# Altium footprint library Bagryanets-PcbLib.PcbLib: 38 footprints (part 2 of 3)
Each footprint in its own frame and in the unit in brackets; x right, y up, seen from the top. Pads: shape width x height; smd on the part's side, far side on the other; paste and mask are expansions set on the pad; w line width, h text height; cw(c..) or ccw(c..) is an arc to the next point about the centre after c.
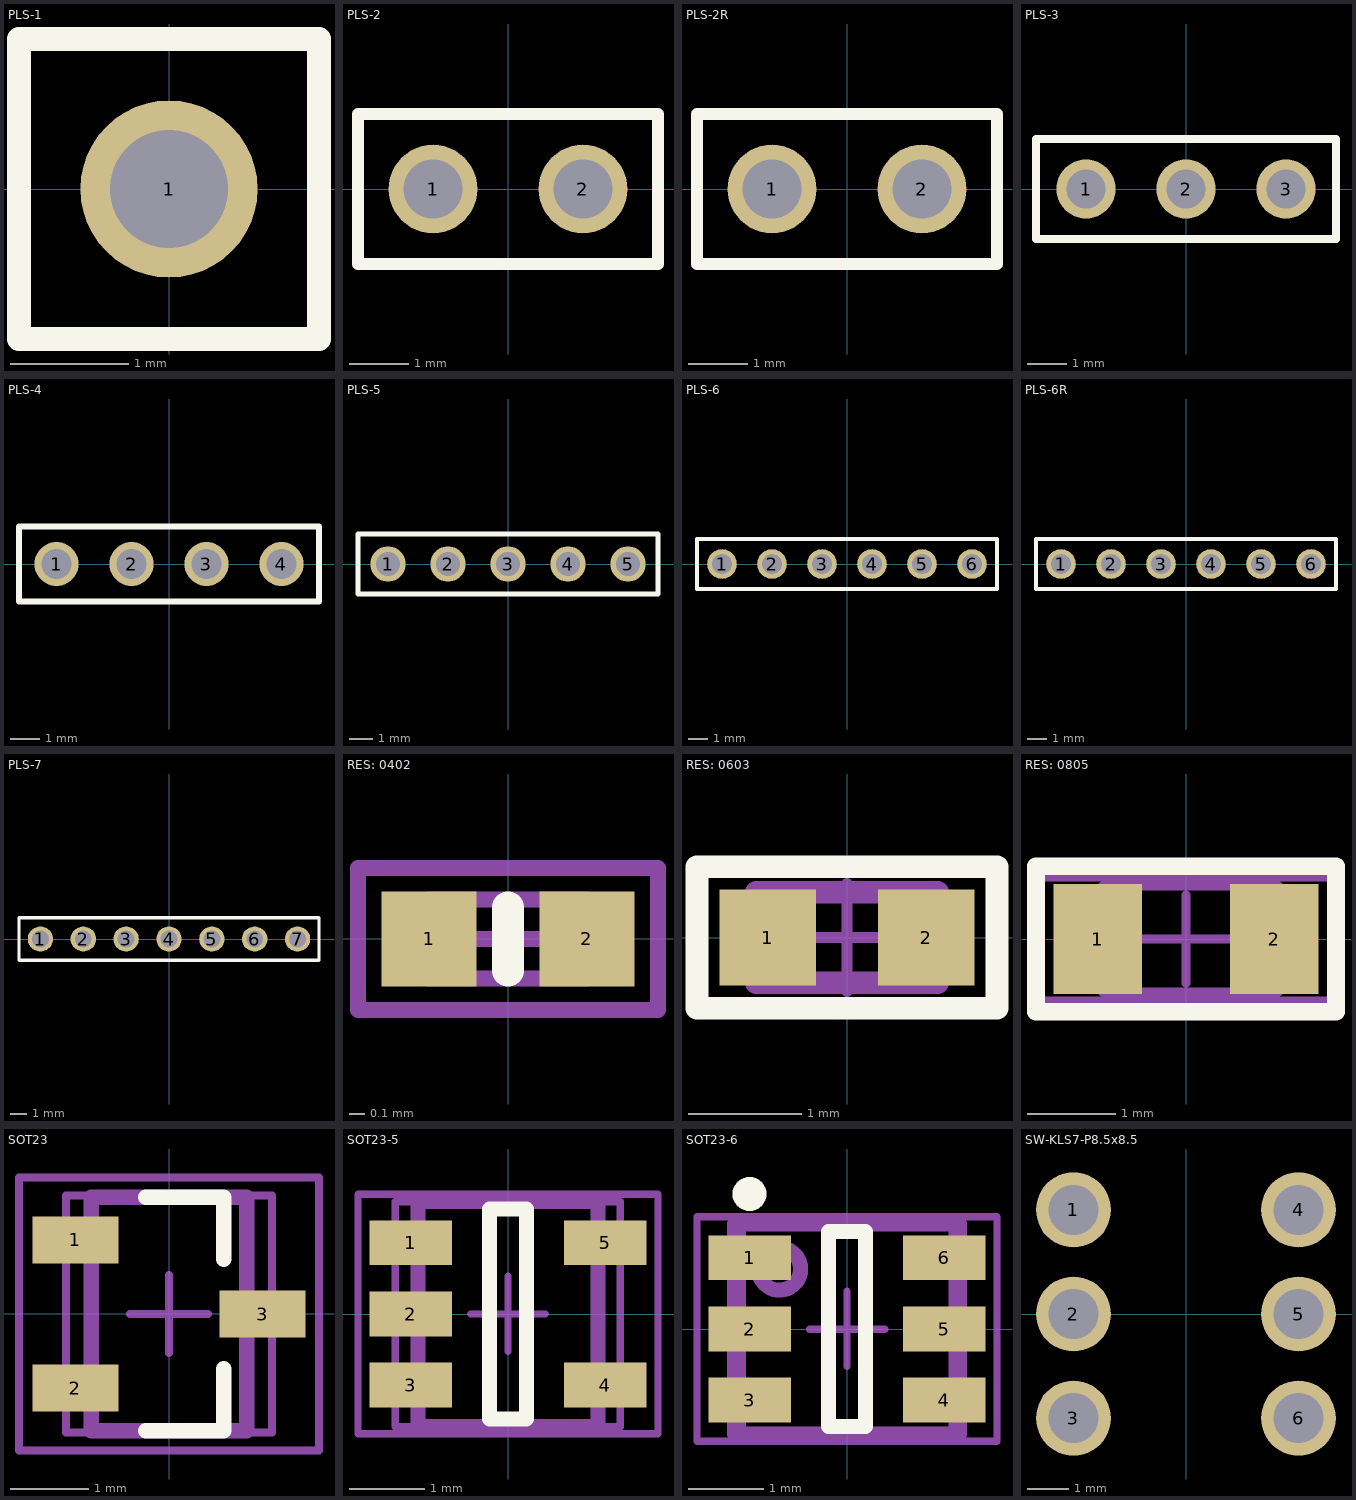
[diagram p1: the footprints below, top view; thin cyan lines are the x and y axes]

## PLS-1 [mm]
height 6
pads (1):
  round 1.5 hole 1: 1(0,0)
Top Overlay:
  lines w0.2: -1.27,-1.27 1.27,-1.27 1.27,1.27 -1.27,1.27 -1.27,-1.27
3D body "PLS-1.STEP": height 8.54, standoff -3, extent -1.27,-1.27 1.27,1.27

## PLS-2 [mm]
height 6
pads (2):
  round 1.5 hole 1: 1(-1.27,0) 2(1.27,0)
Top Overlay:
  lines w0.2: -2.54,-1.27 -2.54,1.27 2.54,1.27 2.54,-1.27 -2.54,-1.27
3D body "XP_HDR-1x02-P2.54mm-Vertical.step": height 8.54, standoff -3, extent -2.54,-1.24 2.54,1.3

## PLS-2R [mm]
height 6
pads (2):
  round 1.5 hole 1: 1(-1.27,0) 2(1.27,0)
Top Overlay:
  lines w0.2: -2.54,-1.27 2.54,-1.27 2.54,1.27 -2.54,1.27 -2.54,-1.27
3D body "XP_HDR-1x02-P2.54mm-Horizontal.step": height 2.54, standoff -3, extent -2.54,-0.4 2.54,9.96

## PLS-3 [mm]
height 6
pads (3):
  round 1.5 hole 1: 1(-2.54,0) 2(0,0) 3(2.54,0)
Top Overlay:
  lines w0.2: -3.81,-1.27 -3.81,1.27 3.81,1.27 3.81,-1.27 -3.81,-1.27
3D body "PLS-3.STEP": height 8.54, standoff -3, extent -3.81,-1.3 3.81,1.24

## PLS-4 [mm]
height 6
pads (4):
  round 1.5 hole 1: 1(-3.81,0) 2(-1.27,0) 3(1.27,0) 4(3.81,0)
Top Overlay:
  lines w0.2: -5.08,-1.27 -5.08,1.27 5.08,1.27 5.08,-1.27 -5.08,-1.27
3D body "PLS-4.STEP": height 8.54, standoff -3, extent -5.08,-1.27 5.08,1.27

## PLS-5 [mm]
height 6
pads (5):
  round 1.5 hole 1: 1(-5.08,0) 2(-2.54,0) 3(0,0) 4(2.54,0) 5(5.08,0)
Top Overlay:
  lines w0.2: -6.35,-1.27 6.35,-1.27 6.35,1.27 -6.35,1.27 -6.35,-1.27
3D body "PLS-5.STEP": height 8.54, standoff -3, extent -6.35,-1.24 6.35,1.3

## PLS-6 [mm]
height 6
pads (6):
  round 1.5 hole 1: 1(-6.35,0) 2(-3.81,0) 3(-1.27,0) 4(1.27,0) 5(3.81,0) 6(6.35,0)
Top Overlay:
  lines w0.2: -7.62,-1.27 -7.62,1.27 7.62,1.27 7.62,-1.27 -7.62,-1.27
3D body "XP_HDR-1x06-P2.54mm-Vertical.step": height 8.54, standoff -3, extent -7.62,-1.27 7.62,1.27

## PLS-6R [mm]
height 6
pads (6):
  round 1.5 hole 1: 1(-6.35,0) 2(-3.81,0) 3(-1.27,0) 4(1.27,0) 5(3.81,0) 6(6.35,0)
Top Overlay:
  lines w0.2: -7.62,-1.27 7.62,-1.27 7.62,1.27 -7.62,1.27 -7.62,-1.27
3D body "XP_HDR-1x06-P2.54mm-Horizontal.step": height 2.54, standoff -3, extent -7.62,-0.3 7.62,10.06

## PLS-7 [mm]
height 6
pads (7):
  round 1.5 hole 1: 1(-7.62,0) 2(-5.08,0) 3(-2.54,0) 4(0,0) 5(2.54,0) 6(5.08,0) 7(7.62,0)
Top Overlay:
  lines w0.2: -8.89,-1.27 8.89,-1.27 8.89,1.27 -8.89,1.27 -8.89,-1.27
3D body "PLS-7.STEP": height 8.54, standoff -3, extent -8.89,-1.3 8.89,1.24

## RES: 0402 [mm]
height 0.35
pads (2):
  rect 0.6x0.6 smd: 1(-0.5,0) 2(0.5,0)
Top Overlay:
  lines w0.2: 0,-0.2 0,0.2
Mechanical 2:
  lines w0.1: -0.25,0 0.25,0 ; 0,-0.25 0,0.25 ; -0.95,-0.45 0.95,-0.45 0.95,0.45 -0.95,0.45 -0.95,-0.45 ; -0.5,-0.25 0.5,-0.25 0.5,0.25 -0.5,0.25 -0.5,-0.25
3D body "chip_0402_r.STEP": height 0.34, standoff -0.02, extent -0.525,-0.25 0.475,0.25

## RES: 0603 [mm]
height 0.45
pads (2):
  rect 0.85x0.85 smd: 1(-0.7,0) 2(0.7,0)
Top Overlay:
  lines w0.2: -1.325,-0.625 -1.325,0.625 1.325,0.625 1.325,-0.625 -1.325,-0.625
Mechanical 2:
  lines w0.1: -0.475,0 0.475,0 ; 0,-0.475 0,0.475 ; -1.325,-0.65 1.325,-0.65 1.325,0.625 -1.325,0.625 -1.325,-0.65 ; -0.8,-0.4 -0.8,0.4 0.8,0.4 0.8,-0.4 -0.8,-0.4
Top Assembly:
  lines w0.2: -0.8,-0.4 -0.8,0.4 0.8,0.4 0.8,-0.4 -0.8,-0.4
3D body "chip_0603_r.STEP": height 0.44, standoff -0.02, extent -0.8,-0.4 0.8,0.4

## RES: 0805 [mm]
height 0.45
pads (2):
  rect 1x1.25 smd: 1(-1,0) 2(1,0)
Top Overlay:
  lines w0.2: -1.7,-0.825 -1.7,0.825 1.7,0.825 1.7,-0.825 -1.7,-0.825
Mechanical 2:
  lines w0.1: -0.5,0 0.5,0 ; 0,-0.5 0,0.5 ; -1.675,-0.7 1.675,-0.7 1.675,0.7 -1.675,0.7 -1.675,-0.7 ; -0.949,-0.6 -0.949,0.6 1.05,0.6 1.05,-0.6 -0.949,-0.6
3D body "chip_0805_r.STEP": height 0.44, standoff -0.02, extent -1,-0.6 1,0.6

## SOT23 [mm]
height 1.1
pads (3):
  rect 1.1x0.6 smd: 1(-1.2,0.95) 2(-1.2,-0.95) 3(1.2,0)
Top Overlay:
  lines w0.2: -0.3,-1.5 0.7,-1.5 0.7,-0.7 ; -0.3,1.5 0.7,1.5 0.7,0.7
Mechanical 2:
  lines w0.1: -0.5,0 0.5,0 ; 0,-0.5 0,0.5 ; -1.925,-1.75 -1.925,1.75 1.925,1.75 1.925,-1.75 -1.925,-1.75 ; -1.32,-1.52 1.32,-1.52 1.32,1.52 -1.32,1.52 -1.32,-1.52
Top Assembly:
  lines w0.2: -1,-1.5 -1,1.5 1,1.5 1,-1.5 -1,-1.5
3D body "SOT95P237X112-3N.step": height 1.12, standoff 0, extent -1.32,-1.52 1.32,1.52

## SOT23-5 [mm] "pitch 0.95 mm"
height 1.45
pads (5):
  rect 1.1x0.6 smd: 1(-1.3,0.95) 2(-1.3,0) 3(-1.3,-0.95) 4(1.3,-0.95) 5(1.3,0.95)
Top Overlay:
  lines w0.2: -0.25,-1.4 0.25,-1.4 0.25,1.4 -0.25,1.4 -0.25,-1.4
Mechanical 2:
  lines w0.1: -0.5,0 0.5,0 ; 0,-0.5 0,0.5 ; -2,-1.6 -2,1.6 2,1.6 2,-1.6 -2,-1.6 ; -1.5,-1.5 -1.5,1.5 1.5,1.5 1.5,-1.5 -1.5,-1.5
Top Assembly:
  lines w0.2: -1.2,-1.5 -1.2,1.5 1.2,1.5 1.2,-1.5 -1.2,-1.5
3D body "SOT23-5-1.step": height 1.3, standoff 0, extent -1.5,-1.5 1.5,1.5

## SOT23-6 [mm] "pitch 0.95 mm"
height 1.1
pads (6):
  rect 1.1x0.6 smd: 1(-1.3,0.95) 2(-1.3,0) 3(-1.3,-0.95) 4(1.3,-0.95) 5(1.3,0) 6(1.3,0.95)
Top Overlay:
  circle w0.254: c-1.3,1.8 r0.1
  lines w0.2: -0.25,-1.3 -0.25,1.3 0.25,1.3 0.25,-1.3 -0.25,-1.3
Mechanical 2:
  lines w0.1: -0.5,0 0.5,0 ; 0,-0.5 0,0.5 ; -2,-1.5 2,-1.5 2,1.5 -2,1.5 -2,-1.5 ; -1.4,-1.45 1.4,-1.45 1.4,1.45 -1.4,1.45 -1.4,-1.45
Top Assembly:
  circle w0.2: c-0.9,0.8 r0.283
  lines w0.2: -1.5,-1.4 1.5,-1.4 1.5,1.4 -1.5,1.4 -1.5,-1.4
3D body "User Library-SOT23-6-2.STEP": height 1.45, standoff 0, extent -1.4,-1.45 1.4,1.45

## SW-KLS7-P8.5x8.5 [mm]
pads (6):
  round 1.8 hole 1.2: 1(-2.7,2.5) 2(-2.7,0) 3(-2.7,-2.5) 4(2.7,2.5) 5(2.7,0) 6(2.7,-2.5)
3D body "SW_ButtonWithFix.step": height 13, standoff -4, extent -3.5,-3.5 3.5,3.5